# EAGLE library part 691382040007 (library Eagle_WR-TBL Pluggable Connector (rev21a))
WR-TBL Serie 382 - 2.50 mm Horizontal PCB Header with Flanges KIND PROPERTIES Pitch 2.5 mm MATERIAL PROPERTIES Insulator Material PA66 Insulator Flammability Rating UL94 V-0 Contact Material Copper Alloy Contact Plating Tin Contact Type Stamped GENERAL INFORMATION Operating Temperature -40 up to +105 °C Compliance RoHS ELECTRICAL PROPERTIES IR cULus 12 A Working Voltage [cULus] 300 V (AC) Withstanding Voltage [cULus] 1000 V (AC) Contact Resistance [cULus] 20 mΩ CERTIFICATION cULus Approval E315414 <https://www.we-online.com/catalog/media/o55406v209%20Family_WR-TBL_Serie_382_6913820400xx.jpg> Details see: https://www.we-online.com/catalog/en/TBL_2_50_382_HORIZONTAL_PCB_HEADER_W_FLANGES_69138204000X/ Updated by Ella Wu 2019-12-13 2019(C) Wurth Elektronik
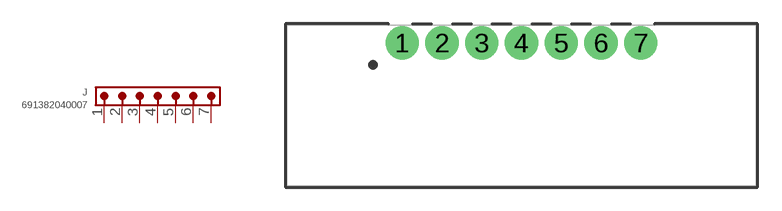
[diagram p123: symbol with the pads of 691382040007; footprint 691382040007]

Designator prefix J

## 691382040007 (DATASHEET-URL: https://www.we-online.com/catalog/datasheet/691382040007.pdf; IR-UL: 12A; MOUNT: THT; PART-NUMBER: 691382040007; PINS: 7; PITCH: 2.5mm; TYPE: Horizontal; VALUE: 691382040007; WORKING-VOLTAGE-UL: 300V (AC))  [691382040007]
1  1  pas
2  2  pas
3  3  pas
4  4  pas
5  5  pas
6  6  pas
7  7  pas

## Footprint 691382040007 (pad centres in mm)
WR-TBL Serie 382 - 2.50 mm Horizontal PCB Header with Flanges Max Height = 8.1mm , Pitch 2.5mm , 7pins
drill 1.4: 1 -7.5,0; 2 -5,0; 3 -2.5,0; 4 0,0; 5 2.5,0; 6 5,0; 7 7.5,0